# Altium schematic symbol library KEN_Library.SchLib: 1 symbol
Pins are listed as number, name and electrical type; pins without a type are passive.

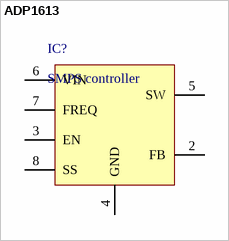
[diagram p0: symbol ADP1613]

## ADP1613
designator IC?, comment SMPS controller
HelpURL: https://eu.mouser.com/ProductDetail/Analog-Devices/ADP1613ARMZ-R7?qs=sGAEpiMZZMsjJi7B1kCaqecvymIgrGpIaS1hOGFp3uU%3D
footprint MSOP8
pins: 2 FB, 3 EN, 4 GND, 5 SW, 6 VIN, 7 FREQ, 8 SS